# Altium footprint library CLAP.PcbLib: 265 footprints (part 10 of 17)
Each footprint in its own frame and in the unit in brackets; x right, y up, seen from the top. Pads: shape width x height; smd on the part's side, far side on the other; paste and mask are expansions set on the pad; w line width, h text height; cw(c..) or ccw(c..) is an arc to the next point about the centre after c.
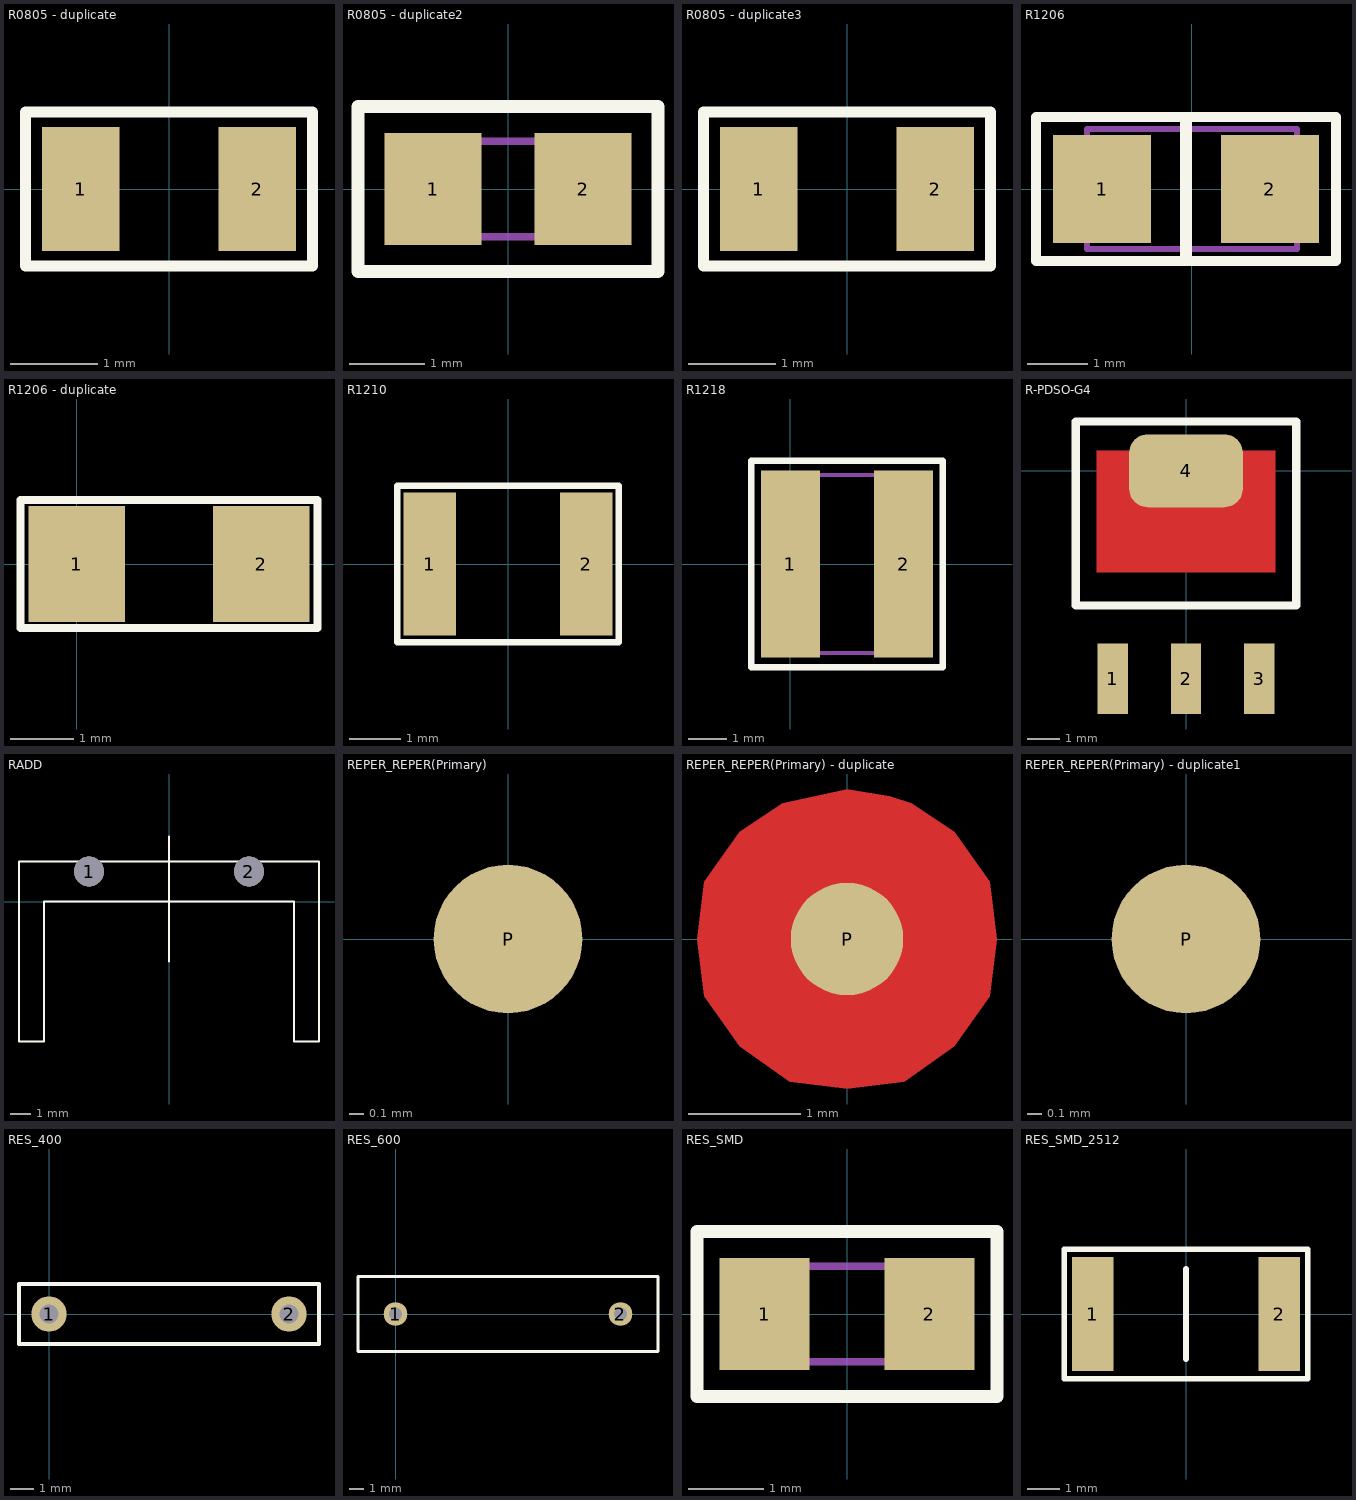
[diagram p9: the footprints below, top view; thin cyan lines are the x and y axes]

## R0805 - duplicate [mil]
pads (2):
  rect 35x56 smd: 1(-40,0) 2(40,0)
Top Overlay:
  lines w5: -65,-35 65,-35 65,35 -65,35 -65,-35
3D body "R_0805_2012Metric.step": height 17.72, standoff 0, extent -39.37,-23.62 39.37,23.62

## R0805 - duplicate2 [mm]
height 0.6
pads (2):
  rect 1.3x1.5 smd: 1(-1,0) 2(1,0)
Top Overlay:
  lines w0.17: -2,-1.1 2,-1.1 2,1.1 -2,1.1 -2,-1.1
Mechanical 1:
  lines w0.1: -1.019,-0.635 -1.019,0.635 1.013,0.635 1.013,-0.635 -1.019,-0.635
3D body "R_0805_2012Metric.step": height 0.45, standoff 0, extent -1,-0.6 1,0.6

## R0805 - duplicate3 [mil]
pads (2):
  rect 35x56 smd: 1(-40,0) 2(40,0)
Top Overlay:
  lines w5: -65,-35 65,-35 65,35 -65,35 -65,-35
3D body "R_0805_2012Metric.step": height 17.72, standoff 0, extent -39.37,-23.62 39.37,23.62

## R1206 [mm]
height 0.021
pads (2):
  rect 1.626x1.8 smd: 1(-1.5,0) 2(1.3,0)
Top Overlay:
  lines w0.17: -2.6,-1.2 2.4,-1.2 2.4,1.2 -2.6,1.2 -2.6,-1.2
  lines w0.2: -0.098,-1.16 -0.098,1.09
Mechanical 1:
  lines w0.1: -1.748,-1 1.752,-1 1.752,1 -1.248,1 -1.748,1 -1.748,-1
3D body "R_1206_3216Metric.step": height 0.55, standoff 0, extent -1.6,-0.8 1.6,0.8

## R1206 - duplicate [mil]
pads (2):
  rect 60x72 smd: 1(0,0) 2(115,0)
Top Overlay:
  lines w5: -35,-40 -35,40 150,40 150,-40 -35,-40
3D body "R_1206_3216Metric.step": height 21.65, standoff 0, extent -7.88,-31.5 118.11,31.49

## R1210 [mil]
pads (2):
  rect 40x110 smd: 1(-60,0) 2(60,0)
Top Overlay:
  lines w5: -85,-60 -85,60 85,60 85,-60 -85,-60
3D body "R_1210_3225Metric.step": height 21.65, standoff 0, extent -62.99,-49.21 62.99,49.21

## R1218 [mil]
height 0.55
pads (2):
  rect 60x190 smd: 1(0,0) 2(115,0)
Top Overlay:
  lines w6.69: -40,-105 155,-105 155,105 -40,105 -40,-105
Mechanical 1:
  lines w3.94: -3.94,-90.55 122.05,-90.55 122.05,90.55 -3.94,90.55 -3.94,-90.55
3D body "R_1218_3246Metric.step": height 21.65, standoff 0, extent -3.94,-90.55 122.04,90.55

## R-PDSO-G4 [mm]
pads (4):
  rect 0.954x2.2 smd: 1(-2.3,-6.512) 2(0,-6.512) 3(2.3,-6.512)
  rrect50% 3.556x2.286 smd: 4(0,0)
Top Layer:
  region: -1.778,0.635 -2.794,0.635 -2.794,-3.175 2.794,-3.175 2.794,0.635 1.778,0.635
Top Overlay:
  lines w0.254: -3.45,-4.212 -3.45,1.538 3.45,1.538 3.45,-4.212 -3.45,-4.212
Top Paste:
  region: -1.778,0.635 -2.794,0.635 -2.794,-3.175 2.794,-3.175 2.794,0.635 1.778,0.635
3D body "SOT-223.step": height 1.7, standoff 0, extent -3.25,-7 3.25,0

## RADD [mm]
pads (2):
  round 1.5 hole 1.5 unplated: 1(-4,1.5) 2(4,1.5)
Top Overlay:
  lines w0.1: 0,-3 0,3.25 ; -7.5,-7 -6.25,-7 -6.25,0 6.25,0 6.25,-7 7.5,-7 7.5,2 -7.5,2 -7.5,-7

## REPER_REPER(Primary) [mm]
pads (1):
  round 1 smd paste-25.4 mask-25.4: P(0,0)
Top Paste:
  region: 0,0.51 -0.195,0.471 -0.36,0.36 -0.471,0.195 -0.51,0 -0.471,-0.195 -0.36,-0.36 -0.195,-0.471 0,-0.51 0.195,-0.471 0.36,-0.36 0.471,-0.195 0.51,0 0.471,0.195 0.36,0.36 0.195,0.471
Top Solder:
  region: 0,1.009 -0.261,0.974 -0.504,0.873 -0.713,0.713 -0.873,0.504 -0.974,0.261 -1.009,0 -0.974,-0.261 -0.873,-0.504 -0.713,-0.713 -0.504,-0.873 -0.261,-0.974 0,-1.009 0.261,-0.974 0.504,-0.873 0.713,-0.713 0.873,-0.504 0.974,-0.261 1.009,0 0.974,0.261 0.873,0.504 0.713,0.713 0.504,0.873 0.261,0.974

## REPER_REPER(Primary) - duplicate [mm]
pads (1):
  round 1 smd paste-25.4 mask-25.4: P(0,0)
Top Layer:
  pour cut-out: 0,1.333 -0.572,1.206 -0.953,0.953 -1.27,0.508 -1.333,0 -1.27,-0.508 -0.953,-0.953 -0.508,-1.27 0,-1.333 0.508,-1.27 0.953,-0.953 1.27,-0.508 1.333,0 1.27,0.508 0.953,0.953 0.572,1.206 0.381,1.27
Top Paste:
  region: 0,0.51 -0.195,0.471 -0.36,0.36 -0.471,0.195 -0.51,0 -0.471,-0.195 -0.36,-0.36 -0.195,-0.471 0,-0.51 0.195,-0.471 0.36,-0.36 0.471,-0.195 0.51,0 0.471,0.195 0.36,0.36 0.195,0.471
Top Solder:
  region: 0,0.908 -0.235,0.877 -0.454,0.786 -0.642,0.642 -0.786,0.454 -0.877,0.235 -0.908,0 -0.877,-0.235 -0.786,-0.454 -0.642,-0.642 -0.454,-0.786 -0.235,-0.877 0,-0.908 0.235,-0.877 0.454,-0.786 0.642,-0.642 0.786,-0.454 0.877,-0.235 0.908,0 0.877,0.235 0.786,0.454 0.642,0.642 0.454,0.786 0.235,0.877

## REPER_REPER(Primary) - duplicate1 [mm]
pads (1):
  round 1 smd paste-25.4 mask-25.4: P(0,0)
Top Paste:
  region: 0,0.51 -0.195,0.471 -0.36,0.36 -0.471,0.195 -0.51,0 -0.471,-0.195 -0.36,-0.36 -0.195,-0.471 0,-0.51 0.195,-0.471 0.36,-0.36 0.471,-0.195 0.51,0 0.471,0.195 0.36,0.36 0.195,0.471
Top Solder:
  region: 0,1.009 -0.261,0.974 -0.504,0.873 -0.713,0.713 -0.873,0.504 -0.974,0.261 -1.009,0 -0.974,-0.261 -0.873,-0.504 -0.713,-0.713 -0.504,-0.873 -0.261,-0.974 0,-1.009 0.261,-0.974 0.504,-0.873 0.713,-0.713 0.873,-0.504 0.974,-0.261 1.009,0 0.974,0.261 0.873,0.504 0.713,0.713 0.504,0.873 0.261,0.974

## RES_400 [mm]
pads (2):
  round 1.5 hole 0.8: 1(0,0) 2(10.16,0)
Top Overlay:
  lines w0.17: -1.27,-1.27 -1.27,1.27 11.43,1.27 11.43,-1.27 -1.27,-1.27
Mechanical 1:
  lines w0.1: -1.27,-1.27 -1.27,1.27 11.43,1.27 11.43,-1.27 -1.27,-1.27
3D body "R_Axial_DIN0207_L6.3mm_D2.5mm_P10.16mm_Horizontal.step": height 2.5, standoff -3, extent -0.297,-1.24 10.458,1.25

## RES_600 [mm]
pads (2):
  round 1.6 hole 0.9: 1(0,0) 2(15.24,0)
Top Overlay:
  lines w0.17: -2.54,-2.54 -2.54,2.54 17.78,2.54 17.78,-2.54 -2.54,-2.54
Mechanical 1:
  lines w0.1: -2.54,-2.54 -2.54,2.54 17.78,2.54 17.78,-2.54 -2.54,-2.54
3D body "R_Axial_DIN0309_L9.0mm_D3.2mm_P15.24mm_Horizontal.step": height 3.2, standoff -3, extent -0.347,-1.6 15.587,1.6

## RES_SMD [mm]
pads (2):
  rect 1.2x1.5 smd: 1(-1.1,0) 2(1.1,0)
Top Overlay:
  lines w0.17: -2,-1.1 -2,1.1 2,1.1 2,-1.1 -2,-1.1
Mechanical 1:
  lines w0.1: -1.019,-0.635 -1.019,0.635 1.013,0.635 1.013,-0.635 -1.019,-0.635
3D body "R_0805_2012Metric.step": height 0.45, standoff 0, extent -1,-0.6 1,0.6

## RES_SMD_2512 [mm]
pads (2):
  rect 1.3x3.56 smd: 1(-2.921,0) 2(2.921,0)
Top Overlay:
  lines w0.17: -3.81,-2.032 -3.81,2.032 3.81,2.032 3.81,-2.032 -3.81,-2.032
  lines w0.2: 0,-1.397 0,1.397
3D body "R_2512_6332Metric.step": height 0.6, standoff 0, extent -3.15,-1.6 3.15,1.6